# Altium schematic symbol library Sensor Evaluation Boards.SchLib: 1 symbol
Pins are listed as number, name and electrical type; pins without a type are passive.

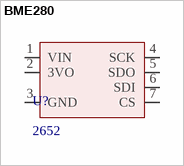
[diagram p0: symbol BME280]

## BME280
designator U?, comment 2652
Adafruit Bme280 I2C Or Spi Temperature Humidity Pressure Sensor - Stemma Qt |Adafruit 2652; Manufacturer: Adafruit Industries; Number of Channels: 1NUMBER; Designed: Ferdi; Supplier 1: Digi-Key; Manufacturer Part Number: 2652; RoHS: Yes; Category: Proximity Sensors; Stock 1: 131; Pricing 1: 1=14,95 (USD); Min Operating Temperature: -40°C; Max Operating Temperature: 85°C; ComponentLink1URL: http://www.mouser.com/ds/2/737/adafruit-bme280-humidity-barometric-pressure-tempe-740823.pdf?src-supplier=Mouser; ComponentLink1Description: http://www.mouser.com/ds/2/737/adafruit-bme280-humidity-barometric-pressure-tempe-740823.pdf?src-supplier=Mouser; ComponentLink2URL: https://learn.adafruit.com/downloads/pdf/adafruit-bme280-humidity-barometric-pressure-temperature-sensor-breakout.pdf?src-supplier=Digi-Key; ComponentLink2Description: https://learn.adafruit.com/downloads/pdf/adafruit-bme280-humidity-barometric-pressure-temperature-sensor-breakout.pdf?src-supplier=Digi-Key; Supplier Part Number 1: 1528-1359-ND
footprint BME280
pins: 1 VIN, 2 3VO, 3 GND, 4 SCK, 5 SDO, 6 SDI, 7 CS